# EAGLE library part INS_OPAMP_AD8221 (library GTOR - Active Components)
ANALOG DEVICES - AD8221ARMZ-R7 - INSTRUMENTATION AMPLIFIER, 825KHZ, MSOP8 Source: Datasheet <http://www.analog.com/media/en/technical-documentation/data-sheets/AD8221.pdf>
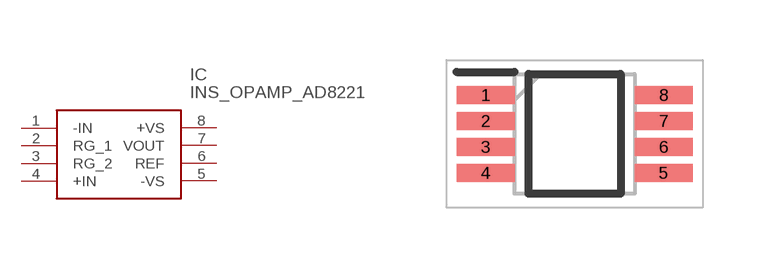
[diagram p9: symbol with the pads of SOP65P490X110-8N; footprint SOP65P490X110-8N]

Designator prefix IC

## INS_OPAMP_AD8221 (ARROW_PART_NUMBER: AD8221ARMZ-R7; ARROW_PRICE-STOCK: https://www.arrow.com/en/products/ad8221armz-r7/analog-devices; DESCRIPTION: ANALOG DEVICES - AD8221ARMZ-R7 - INSTRUMENTATION AMPLIFIER, 825KHZ, MSOP8; HEIGHT: 1.1mm; MANUFACTURER_NAME: Analog Devices; MANUFACTURER_PART_NUMBER: AD8221ARMZ-R7; MOUSER_PART_NUMBER: 584-AD8221ARMZ-R7; MOUSER_PRICE-STOCK: https://www.mouser.co.uk/ProductDetail/Analog-Devices/AD8221ARMZ-R7?qs=%2FtpEQrCGXCyX3gxQaWBZmg%3D%3D)  [SOP65P490X110-8N]
1  -IN
2  RG_1
3  RG_2
4  +IN
5  -VS
6  REF
7  VOUT
8  +VS

## Footprint SOP65P490X110-8N (pad centres in mm)
AD8221ARMZ-R7-1
smd 1.45 x 0.45: 1 -2.225,0.975; 2 -2.225,0.325; 3 -2.225,-0.325; 4 -2.225,-0.975; 5 2.225,-0.975; 6 2.225,-0.325; 7 2.225,0.325; 8 2.225,0.975